# Altium footprint library Nutz.PcbLib: 67 footprints (part 1 of 5)
Each footprint in its own frame and in the unit in brackets; x right, y up, seen from the top. Pads: shape width x height; smd on the part's side, far side on the other; paste and mask are expansions set on the pad; w line width, h text height; cw(c..) or ccw(c..) is an arc to the next point about the centre after c.
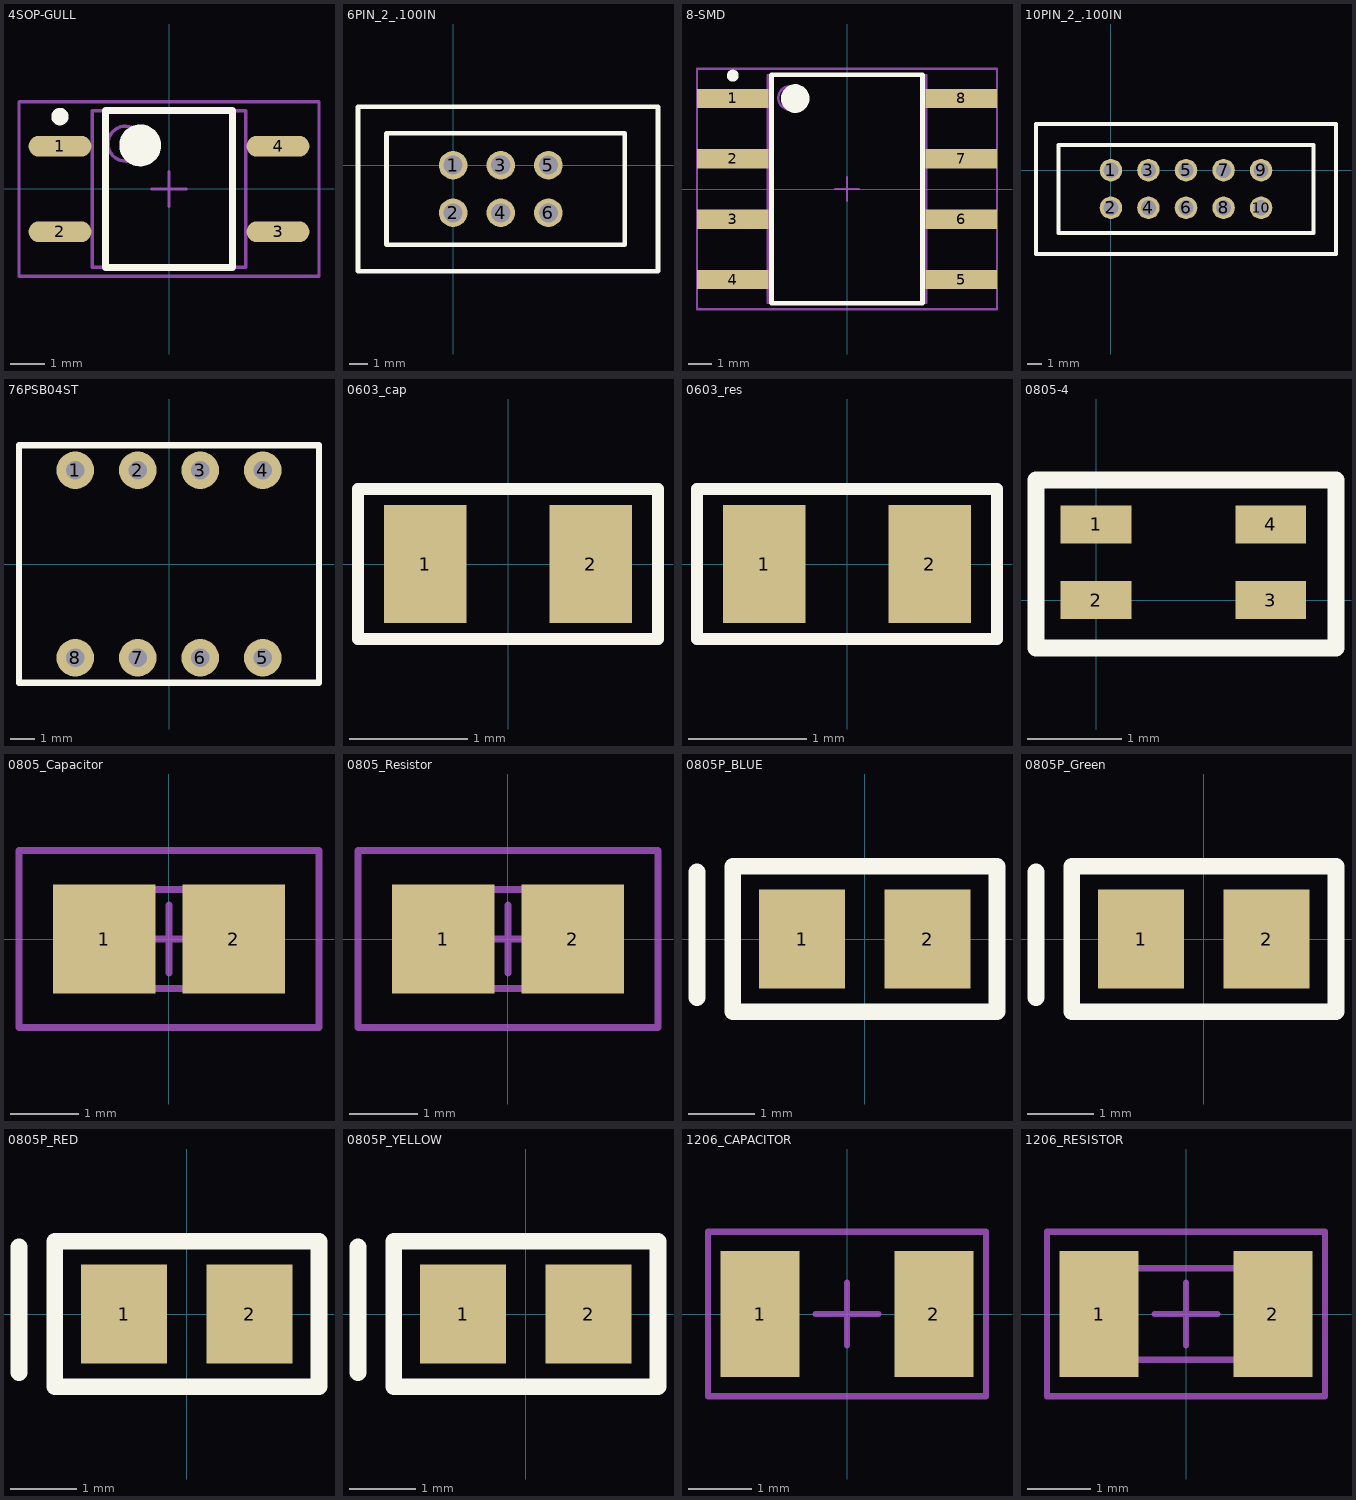
[diagram p0: the footprints below, top view; thin cyan lines are the x and y axes]

## 4SOP-GULL [mm] "SOP, 4-Leads, Body 4.5x4.4mm (max), Pitch 2.45mm, IPC Medium Density"
height 2.1
pads (4):
  oval 1.8x0.6 smd: 1(-3.125,1.225) 2(-3.125,-1.225) 3(3.125,-1.225) 4(3.125,1.225)
Top Overlay:
  circle w0.6: c-0.825,1.25 r0.3
  circle w0.25: c-3.125,2.075 r0.125
  lines w0.2: -1.825,-2.25 1.825,-2.25 1.825,2.25 -1.825,2.25 -1.825,-2.25
Mechanical 13:
  circle w0.1: c-1.25,1.3 r0.5
  lines w0.1: -2.2,-2.25 2.2,-2.25 2.2,2.25 -2.2,2.25 -2.2,-2.25
Mechanical 15:
  lines w0.1: -0.5,0 0.5,0 ; 0,-0.5 0,0.5 ; -4.3,-2.5 4.3,-2.5 4.3,2.5 -4.3,2.5 -4.3,-2.5
3D body: height 2.1, standoff 0.15, extent -2.2,-2.25 2.2,2.25

## 6PIN_2_.100IN [mil]
pads (6):
  round 60 hole 40.16: 1(0,0) 2(0,-100) 3(100,0) 4(100,-100) 5(200,0) 6(200,-100)
Top Overlay:
  lines w10: -199.61,-222.83 430,-222.83 430,122.83 -199.61,122.83 -199.61,-222.83 ; -139.76,-167.13 360,-167.13 360,67.13 -139.76,67.13 -139.76,-167.13

## 8-SMD [mm]
height 4.85
pads (8):
  rect 3x0.8 smd: 1(-4.8,3.81) 2(-4.8,1.27) 3(-4.8,-1.27) 4(-4.8,-3.81) 5(4.8,-3.81) 6(4.8,-1.27) 7(4.8,1.27) 8(4.8,3.81)
Top Overlay:
  circle w0.6: c-2.175,3.8 r0.3
  circle w0.25: c-4.8,4.76 r0.125
  lines w0.2: -3.175,-4.8 3.175,-4.8 3.175,4.8 -3.175,4.8 -3.175,-4.8
Mechanical 13:
  circle w0.1: c-2.385,3.825 r0.5
  lines w0.1: -3.335,-4.775 3.335,-4.775 3.335,4.775 -3.335,4.775 -3.335,-4.775
Mechanical 15:
  lines w0.1: -0.5,0 0.5,0 ; 0,-0.5 0,0.5 ; -6.3,-5.05 6.3,-5.05 6.3,5.05 -6.3,5.05 -6.3,-5.05
3D body: height 4.85, standoff 0.2, extent -3.335,-4.775 3.335,4.775

## 10PIN_2_.100IN [mil]
pads (10):
  round 60 hole 40.16: 1(0,0) 2(0,-100) 3(100,0) 4(100,-100) 5(200,0) 6(200,-100) 7(300,0) 8(300,-100) 9(400,0) 10(400,-100)
Top Overlay:
  lines w10: -199.61,-222.83 -199.61,122.83 599.61,122.83 599.61,-222.83 -199.61,-222.83 ; -139.76,-167.13 -139.76,67.13 539.76,67.13 539.76,-167.13 -139.76,-167.13
3D body: height 364.41, standoff -115.59, extent -200,-240 600,133

## 76PSB04ST [mil] "Dip Switch Piano Style"
pads (8):
  round 60 hole 30: 1(-150,150) 2(-50,150) 3(50,150) 4(150,150) 5(150,-150) 6(50,-150) 7(-50,-150) 8(-150,-150)
Top Overlay:
  lines w10: -240,-190 240,-190 240,190 0,190 -240,190 -240,-190
3D body: height 306.93, standoff -101, extent -225.98,-189.96 224.02,190.04

## 0603_cap [mm]
pads (2):
  rect 0.7x1 smd: 1(-0.7,0) 2(0.7,0)
Top Overlay:
  lines w0.1: -1.27,-0.635 -1.27,0.635 ; -1.27,-0.635 1.27,-0.635 1.27,0.635 -1.27,0.635 ; -1.27,-0.635 -1.27,0.635
Mechanical 15:
  lines w0.1: -1.27,-0.635 1.27,-0.635 1.27,0.635 -1.27,0.635 -1.27,-0.635
3D body: height 0.3, standoff 0, extent -0.8,-0.4 0.8,0.4

## 0603_res [mm]
pads (2):
  rect 0.7x1 smd: 1(-0.7,0) 2(0.7,0)
Top Overlay:
  lines w0.1: -1.27,-0.635 -1.27,0.635 1.27,0.635 1.27,-0.635 -1.27,-0.635
Mechanical 15:
  lines w0.1: -1.27,-0.635 1.27,-0.635 1.27,0.635 -1.27,0.635 -1.27,-0.635
3D body: height 0.3, standoff 0, extent -0.8,-0.4 0.8,0.4

## 0805-4 [mm]
pads (4):
  rect 0.75x0.4 smd: 1(0,0.8) 2(0,0) 3(1.85,0) 4(1.85,0.8)
Top Overlay:
  lines w0.178: -0.635,-0.508 2.54,-0.508 2.54,1.27 -0.635,1.27 -0.635,-0.508

## 0805_Capacitor [mm] "0805 Capacitor"
height 1.1
pads (2):
  rect 1.5x1.6 smd: 1(-0.95,0) 2(0.95,0)
Mechanical 13:
  lines w0.1: -1.1,-0.725 -1.1,0.725 1.1,0.725 1.1,-0.725 -1.1,-0.725
Mechanical 15:
  lines w0.1: -0.5,0 0.5,0 ; 0,-0.5 0,0.5 ; -2.2,-1.3 -2.2,1.3 2.2,1.3 2.2,-1.3 -2.2,-1.3
3D body: height 0.76, standoff -0.03, extent -1,-0.625 1,0.625

## 0805_Resistor [mm] "0805 Resistor"
height 1.1
pads (2):
  rect 1.5x1.6 smd: 1(-0.95,0) 2(0.95,0)
Mechanical 13:
  lines w0.1: -1.1,-0.725 1.1,-0.725 1.1,0.725 -1.1,0.725 -1.1,-0.725
Mechanical 15:
  lines w0.1: -0.5,0 0.5,0 ; 0,-0.5 0,0.5 ; -2.2,-1.3 2.2,-1.3 2.2,1.3 -2.2,1.3 -2.2,-1.3
3D body: height 0.78, standoff 0, extent -1,-0.625 1,0.625

## 0805P_BLUE [mm] "Chip Capacitor; Body 2.0 x 1.2 mm (LxW typ)"
height 1.3
pads (2):
  rect 1.3x1.5 smd: 1(-0.95,0) 2(0.95,0)
Top Overlay:
  lines w0.254: -2.54,-0.889 -2.54,1.016 ; -2,-1.1 -2,1.1 2,1.1 2,-1.1 0.9,-1.1 -0.9,-1.1 -2,-1.1
3D body: height 0.79, standoff 0, extent -1.016,-0.635 0.991,0.61

## 0805P_Green [mm] "Chip Capacitor; Body 2.0 x 1.2 mm (LxW typ)"
height 1.3
pads (2):
  rect 1.3x1.5 smd: 1(-0.95,0) 2(0.95,0)
Top Overlay:
  lines w0.254: -2.54,-0.889 -2.54,1.016 ; -2,-1.1 -0.9,-1.1 0.9,-1.1 2,-1.1 2,1.1 -2,1.1 -2,-1.1
3D body: height 0.79, standoff 0, extent -1.016,-0.635 0.991,0.61

## 0805P_RED [mm] "Chip Capacitor; Body 2.0 x 1.2 mm (LxW typ)"
height 1.3
pads (2):
  rect 1.3x1.5 smd: 1(-0.95,0) 2(0.95,0)
Top Overlay:
  lines w0.254: -2.54,-0.889 -2.54,1.016 ; -2,-1.1 -0.9,-1.1 0.9,-1.1 2,-1.1 2,1.1 -2,1.1 -2,-1.1
3D body: height 0.79, standoff 0, extent -1.016,-0.635 0.991,0.61

## 0805P_YELLOW [mm] "Chip Capacitor; Body 2.0 x 1.2 mm (LxW typ)"
height 1.3
pads (2):
  rect 1.3x1.5 smd: 1(-0.95,0) 2(0.95,0)
Top Overlay:
  lines w0.254: -2.54,-0.889 -2.54,1.016 ; -2,-1.1 -0.9,-1.1 0.9,-1.1 2,-1.1 2,1.1 -2,1.1 -2,-1.1
3D body: height 0.79, standoff 0, extent -1.016,-0.635 0.991,0.61

## 1206_CAPACITOR [mm] "1206 Resistor/Capacitor"
height 1.1
pads (2):
  rect 1.25x2 smd: 1(-1.375,0) 2(1.375,0)
Mechanical 15:
  lines w0.1: -0.5,0 0.5,0 ; 0,-0.5 0,0.5 ; -2.2,-1.3 2.2,-1.3 2.2,1.3 -2.2,1.3 -2.2,-1.3
3D body: height 1, standoff 0, extent -1.6,-0.8 1.6,0.8

## 1206_RESISTOR [mm] "1206 Resistor/Capacitor"
height 1.1
pads (2):
  rect 1.25x2 smd: 1(-1.375,0) 2(1.375,0)
Mechanical 13:
  lines w0.1: -1.1,-0.725 -1.1,0.725 1.1,0.725 1.1,-0.725 -1.1,-0.725
Mechanical 15:
  lines w0.1: -0.5,0 0.5,0 ; 0,-0.5 0,0.5 ; -2.2,-1.3 -2.2,1.3 2.2,1.3 2.2,-1.3 -2.2,-1.3
3D body: height 1, standoff 0, extent -1.6,-0.8 1.6,0.8